# EAGLE library part XR3085XID (library Jeff)
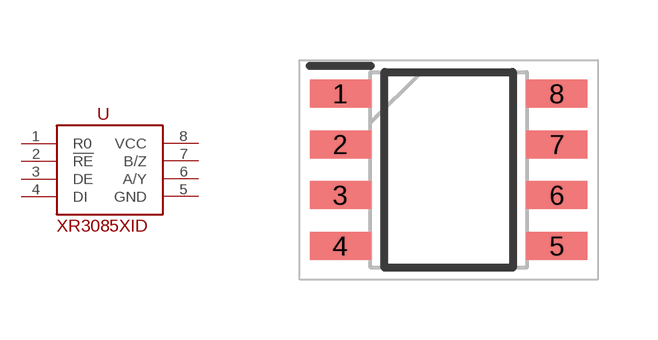
[diagram p0: symbol with the pads of BADSOIC-8; footprint BADSOIC-8]

Designator prefix -

## XR3085XID  [BADSOIC-8]
1  R0
2  !RE!
3  DE
4  DI
5  GND  pwr
6  A/Y
7  B/Z
8  VCC  pwr

## Footprint BADSOIC-8 (pad centres in mm)
smd 1.525 x 0.7: 1 -2.712,1.905; 2 -2.712,0.635; 3 -2.712,-0.635; 4 -2.712,-1.905; 5 2.712,-1.905; 6 2.712,-0.635; 7 2.712,0.635; 8 2.712,1.905